# Altium footprint library PcbLib.PcbLib: 71 footprints (part 5 of 6)
Each footprint in its own frame and in the unit in brackets; x right, y up, seen from the top. Pads: shape width x height; smd on the part's side, far side on the other; paste and mask are expansions set on the pad; w line width, h text height; cw(c..) or ccw(c..) is an arc to the next point about the centre after c.
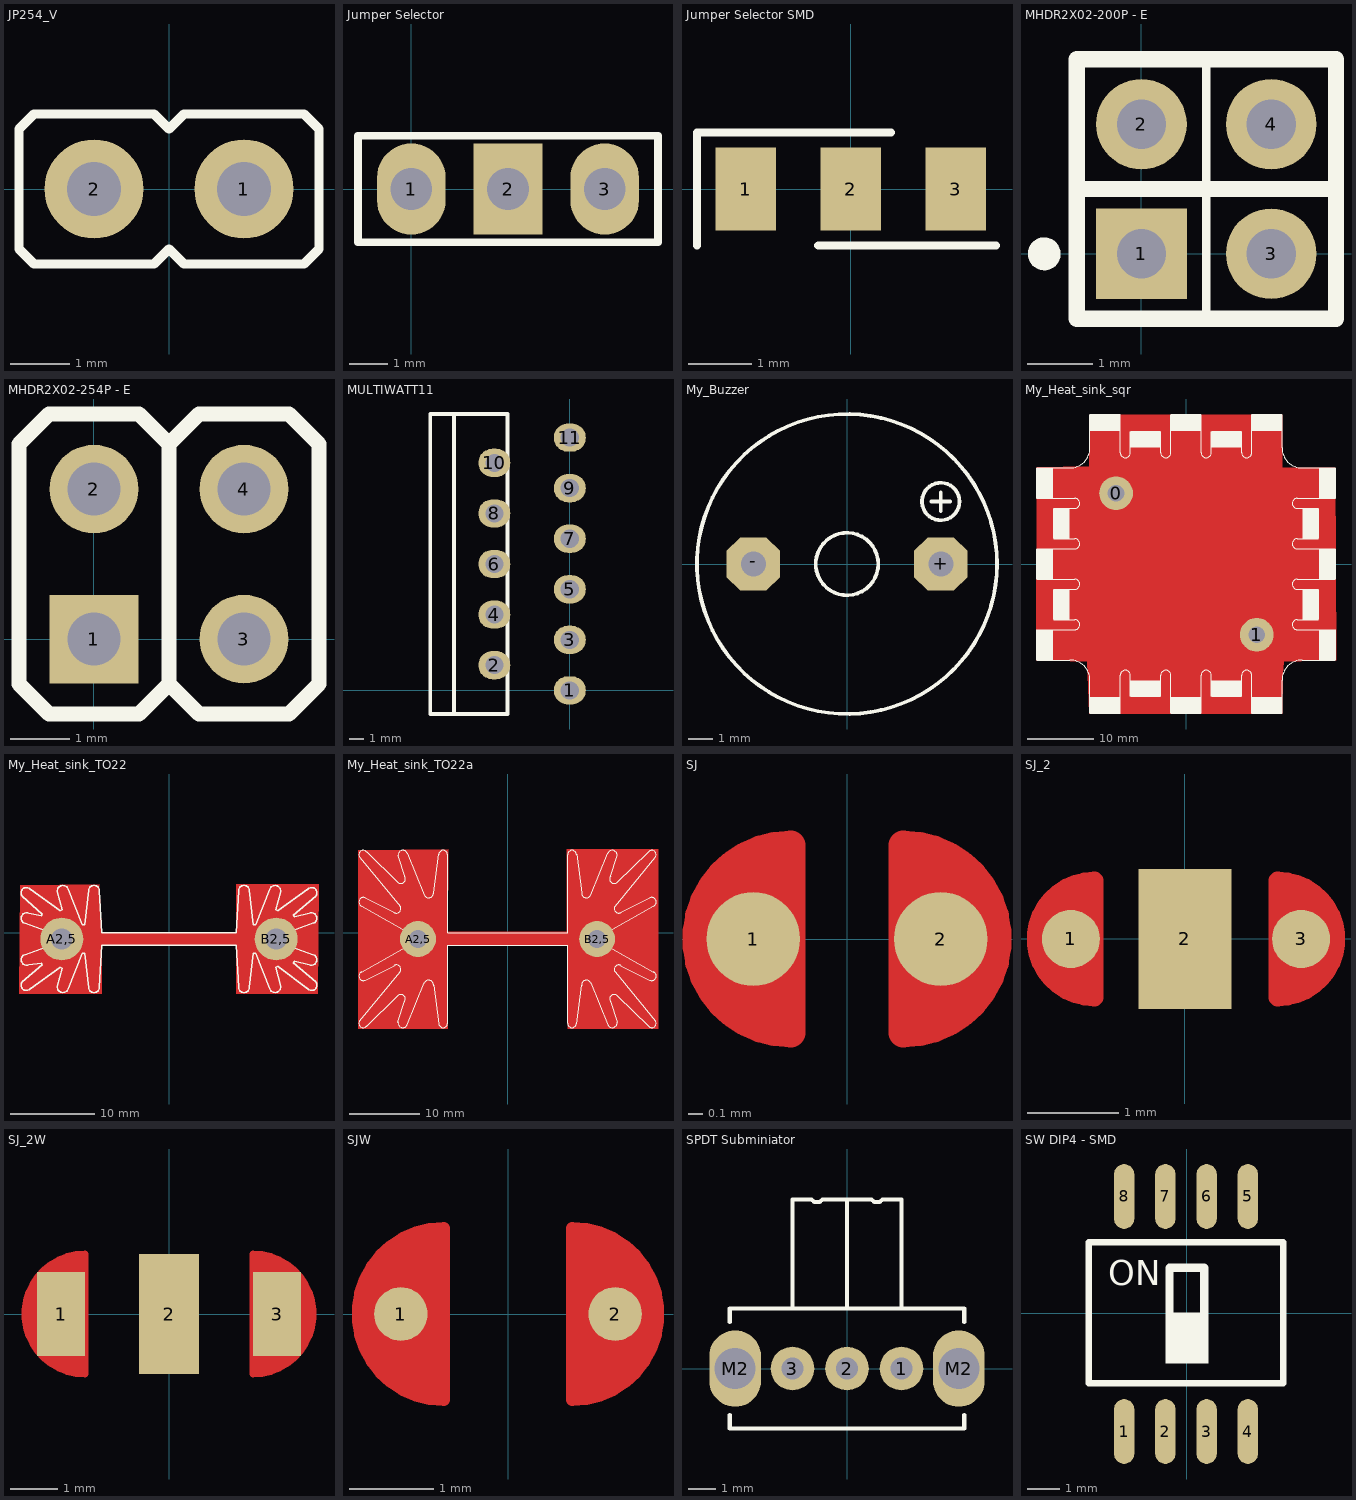
[diagram p4: the footprints below, top view; thin cyan lines are the x and y axes]

## JP254_V [mil] "Jumper Header 2.54mm Pitch, Vertical"
height 393.7
pads (2):
  round 66 hole 36: 1(50,0) 2(-50,0)
Top Overlay:
  lines w6: -100,-40 -100,40 -90,50 -10,50 0,40 10,50 90,50 100,40 100,-40 90,-50 10,-50 0,-40 -10,-50 -90,-50 -100,-40
3D body "pin_header_aw140-eg-g02d.stp": height 322.83, standoff -118.11, extent -96.06,-49.21 100,49.21

## Jumper Selector [mm]
pads (3):
  oval 1.8x2.4 hole 1.1: 1(0,0) 3(5.08,0)
  rect 1.8x2.4 hole 1.1: 2(2.54,0)
Top Overlay:
  lines w0.2: -1.4,-1.4 -1.4,1.4 6.48,1.4 6.48,-1.4 -1.4,-1.4
3D body: height 10.16, standoff 3.05, extent -1.245,-1.27 3.835,1.27
3D body "Header3.STEP": height 8.38, standoff -2.54, extent -1.245,-1.27 6.375,1.27

## Jumper Selector SMD [mm]
pads (3):
  rect 0.95x1.3 smd: 1(-1.65,0) 2(0,0) 3(1.65,0)
Top Overlay:
  lines w0.127: -2.413,-0.889 -2.413,0.889 0.635,0.889 ; -0.508,-0.889 2.286,-0.889
3D body "0805.STEP": height 0.6, standoff 0, extent -1.854,-0.635 0.178,0.635

## MHDR2X02-200P - E [mil] "Male Header 2X02 with 2.00 mm Pitch"
pads (4):
  rect 55x55 hole 30: 1(0,0)
  round 55 hole 30: 2(0,78.74) 3(78.74,0) 4(78.74,78.74)
Top Overlay:
  circle w10: c-59.06,0 r5
  lines w5: 39.37,-39.37 39.37,118.11
  lines w10: -39.37,39.37 118.11,39.37 ; -39.37,-39.37 118.11,-39.37 118.11,118.11 -39.37,118.11 -39.37,-39.37

## MHDR2X02-254P - E [mm] "Male Header 2X02 with 2.54 mm Pitch"
pads (4):
  rect 1.5x1.5 hole 0.9: 1(0,0)
  round 1.5 hole 0.9: 2(0,2.54) 3(2.54,0) 4(2.54,2.54)
Top Overlay:
  lines w0.254: 1.27,-0.762 1.777,-1.268 3.302,-1.268 3.81,-0.76 3.81,3.304 ; 1.27,3.302 0.761,3.812 -0.762,3.812 -1.27,3.304 -1.27,-0.762 -0.763,-1.268 0.762,-1.268 1.27,-0.76 1.27,3.304 1.778,3.812 3.301,3.812 3.81,3.302
3D body "PIN.STEP": height 8.43, standoff -2.49, extent 1.27,-1.27 3.81,1.27
3D body "PIN.STEP": height 8.43, standoff -2.49, extent 1.27,1.27 3.81,3.81
3D body "PIN.STEP": height 8.43, standoff -2.49, extent -1.27,1.27 1.27,3.81
3D body "PIN.STEP": height 8.43, standoff -2.49, extent -1.27,-1.27 1.27,1.27

## MULTIWATT11 [mil] "Use For L6203"
height 760
pads (11):
  oval 85x75 hole 48: 1(0,0) 2(-200,67) 3(0,134) 4(-200,201) 5(0,268) 6(-200,335) 7(0,402) 8(-200,469) 9(0,536) 10(-200,603) 11(0,670)
Top Overlay:
  lines w10: -317,732.5 -315,732.5 ; -307,-62.5 -307,732.5 ; -370,-62.5 -165,-62.5 -165,732.5 -370,732.5 -370,-62.5
3D body: height 760, standoff 62, extent -368,-61 -307,731
3D body: height 42, standoff 20, extent -254,-18 11,19
3D body: height 62, standoff 42, extent -254,-18 -232,19
3D body: height 42, standoff 20, extent -254,116 11,153
3D body: height 62, standoff 42, extent -254,116 -232,153
3D body: height 42, standoff 20, extent -254,250 11,287
3D body: height 62, standoff 42, extent -254,250 -232,287
3D body: height 42, standoff 20, extent -254,384 11,421
3D body: height 62, standoff 42, extent -254,384 -232,421
3D body: height 42, standoff 20, extent -254,518 11,555
3D body: height 62, standoff 42, extent -254,518 -232,555
3D body: height 62, standoff 42, extent -254,652 -232,689
3D body: height 42, standoff 20, extent -254,652 11,689
3D body: height 42, standoff 20, extent -254,49 -189,86
3D body: height 62, standoff 42, extent -254,49 -232,86
3D body: height 42, standoff 20, extent -254,183 -189,220
3D body: height 62, standoff 42, extent -254,183 -232,220
3D body: height 42, standoff 20, extent -254,317 -189,354
3D body: height 62, standoff 42, extent -254,317 -232,354
3D body: height 42, standoff 20, extent -254,451 -189,488
3D body: height 62, standoff 42, extent -254,451 -232,488
3D body: height 62, standoff 42, extent -254,585 -232,622
3D body: height 42, standoff 20, extent -254,585 -189,622
3D body: height 20, standoff -40, extent -11,-18 11,19
3D body: height 20, standoff -40, extent -211,49 -189,86
3D body: height 20, standoff -40, extent -11,116 11,153
3D body: height 20, standoff -40, extent -211,183 -189,220
3D body: height 20, standoff -40, extent -11,250 11,287
3D body: height 20, standoff -40, extent -211,317 -189,354
3D body: height 20, standoff -40, extent -11,384 11,421
3D body: height 20, standoff -40, extent -211,451 -189,488
3D body: height 20, standoff -40, extent -11,518 11,555
3D body: height 20, standoff -40, extent -211,585 -189,622
3D body: height 20, standoff -40, extent -11,652 11,689
3D body: height 490, standoff 60, extent -370,-62.5 -165,732.5

## My_Buzzer [mil]
height 354.33
pads (2):
  oct 85x85 hole 40: +(150,0) -(-150,0)
Top Overlay:
  circle w6: c0,0 r240
  circle w6: c0,0 r50
  circle w6: c150,100 r30
  lines w6: 135,100 165,100 ; 150,85 150,115

## My_Heat_sink_sqr [mil]
pads (2):
  round 200 hole 100: 0(-415,420) 1(420,-420)
Top Layer:
  region: 885,570 570,575 570,885 -570,885 -575,580 -885,575 -890,-570 -585,-580 -575,-890 570,-890 575,-655 580,-580 890,-570
Top Overlay:
  circle w6: c-420,420 r85
  circle w6: c420,-420 r85
  rectangle: -330,690 -150,790
  rectangle: -570,790 -390,890
  rectangle: -790,150 -690,330
  rectangle: -890,390 -790,570
  rectangle: 150,-790 330,-690
  rectangle: 390,-890 570,-790
  rectangle: 690,-330 790,-150
  rectangle: 790,-570 890,-390
  rectangle: -790,-330 -690,-150
  rectangle: -890,-570 -790,-390
  rectangle: -890,-90 -790,90
  rectangle: -330,-790 -150,-690
  rectangle: -90,-890 90,-790
  rectangle: -570,-890 -390,-790
  rectangle: 690,150 790,330
  rectangle: 790,390 890,570
  rectangle: 790,-90 890,90
  rectangle: 150,690 330,790
  rectangle: -90,790 90,890
  rectangle: 390,790 570,890
  lines w6: -885,-570 -690,-570 cw(c-690,-690) -570,-690 -570,-885 ; -885,-390 -660,-390 ccw(c-660,-360) -660,-330 -785,-330 ; -885,-90 -660,-90 cw(c-660,-120) -660,-150 -785,-150 ; -885,90 -660,90 ccw(c-660,120) -660,150 -785,150 ; -885,390 -660,390 cw(c-660,360) -660,330 -785,330 ; -885,570 -690,570 ccw(c-690,690) -570,690 -570,885 ; -390,-885 -390,-660 cw(c-360,-660) -330,-660 -330,-785 ; -390,885 -390,660 ccw(c-360,660) -330,660 -330,785 ; -150,-785 -150,-660 cw(c-120,-660) -90,-660 -90,-885 ; -150,785 -150,660 ccw(c-120,660) -90,660 -90,885 ; 90,-885 90,-660 cw(c120,-660) 150,-660 150,-785 ; 90,885 90,660 ccw(c120,660) 150,660 150,785 ; 330,-785 330,-660 cw(c360,-660) 390,-660 390,-885 ; 330,785 330,660 ccw(c360,660) 390,660 390,885 ; 570,-885 570,-690 cw(c690,-690) 690,-570 885,-570 ; 570,885 570,690 ccw(c690,690) 690,570 885,570 ; 785,-330 660,-330 ccw(c660,-360) 660,-390 885,-390 ; 785,-150 660,-150 cw(c660,-120) 660,-90 885,-90 ; 785,150 660,150 ccw(c660,120) 660,90 885,90 ; 785,330 660,330 cw(c660,360) 660,390 885,390

## My_Heat_sink_TO22 [mil]
pads (2):
  round 200 hole 100: A2,5(-500,-30) B2,5(500,-30)
Top Layer:
  region: 700,225 315,225 315,0 -315,0 -325,225 -695,220 -700,-285 -315,-285 -315,-60 315,-60 315,-285 695,-285
Top Overlay:
  lines w6: -677,-105 -595,-75 -535,-55 ccw(c-500,-30) -535,-5 -595,15 -677,45 ; -675.38,-104.16 ccw(c-665,-126.99) -655,-149.99 -596,-143 -591,-150 -685,-230 ccw(c-665,-245) -645,-260 ; -675.38,44.17 cw(c-665,67) -655,90 -596,78 -591,85 -685,170 cw(c-665,185) -645,200 ; -649,-264 -507,-162 -499,-166 -522,-250 ; -649,204 -507,102 -499,106 -522,190 ; -521.56,-248.57 ccw(c-495,-253) -470,-263 -404,-97 -393,-97 -375,-257 ; -521.56,188.57 cw(c-495,193) -470,203 -404,37 -393,37 -375,197 ; -375,-255 ccw(c-350,-255) -325,-255 -315,-60 315,-60 325,-255 ccw(c350,-255) 375,-255 ; -375,195 cw(c-350,195) -325,195 -315,0 315,0 325,195 cw(c350,195) 375,195 ; 375,-256 393,-97 404,-97 470,-263 ccw(c494.99,-253) 521.55,-248.57 ; 375,198 393,37 404,37 470,203 cw(c494.99,193) 521.55,188.57 ; 522,-250 499,-161 507,-157 649,-264 ; 522,190 499,106 507,102 649,204 ; 535,-55 595,-75 677,-105 ; 535.78,-53.85 cw(c500,-29.99) 535,-4.99 595,15 676,45 ; 645,-260 ccw(c665,-245) 685,-230 581,-140 586,-133 655,-150 ccw(c665,-126.99) 675.38,-104.16 ; 645,200 cw(c665,185) 685,170 581,80 586,73 655,90 cw(c665,67) 675.38,44.17
Mechanical 2:
  text "2,5" at 450,-150 h50
  text "2,5" at -575,-150 h50

## My_Heat_sink_TO22a [mil]
pads (2):
  round 200 hole 100: A2,5(-500,-35) B2,5(500,-35)
Top Layer:
  region: 840,465 330,465 330,5 -335,5 -330,465 -835,460 -835,-535 -335,-535 -335,-75 335,-70 335,-535 840,-535
Top Overlay:
  lines w6: -825,-491 -600,-218 ; -825,-490 ccw(c-805,-505) -785,-520 ; -825,420 cw(c-805,435) -785,450 ; -825,421 -600,148 ; -816,-220 -585,-90 -540,-65 ccw(c-500,-35) -540,-5 -585,20 -816,150 ; -815.38,-219.16 ccw(c-805,-241.99) -795,-264.99 -633,-183 ; -815.38,149.17 cw(c-805,172) -795,195 -633,113 ; -787,-522 -612,-352 ; -787,452 -612,282 ; -635.22,-184.15 cw(c-621.01,-205) -600.01,-219 ; -635.22,114.15 ccw(c-621,135) -600,149 ; -615,-355 cw(c-595,-370) -575,-385 ; -615,285 ccw(c-595,300) -575,315 ; -612,-500 -573,-381 ; -612,430 -573,311 ; -611.56,-498.57 ccw(c-585,-503) -560,-513 -464,-280 ; -611.56,428.57 cw(c-585,433) -560,443 -464,210 ; -465,-282 cw(c-440,-292) -413.44,-296.43 ; -465,212 ccw(c-440,222) -413.44,226.43 ; -413,-294 -385,-507 ; -413,224 -385,437 ; -385,-505 ccw(c-360,-505) -335,-505 -335,-70 335,-70 335,-505 ccw(c360,-505) 385,-505 ; -385,435 cw(c-360,435) -335,435 -335,0 -300,0 335,0 335,435 cw(c360,435) 385,435 ; 385,-507 413,-294 ; 385,437 413,224 ; 413.44,-296.43 cw(c440,-292) 465,-282 ; 413.44,226.43 ccw(c440,222) 465,212 ; 464,-280 560,-513 ccw(c584.99,-503) 611.55,-498.57 ; 464,210 560,443 cw(c584.99,433) 611.55,428.57 ; 573,-381 612,-500 ; 573,311 612,430 ; 575,-385 cw(c595,-370) 615,-355 ; 575,315 ccw(c595,300) 615,285 ; 599.99,-219 cw(c620.99,-205) 635.21,-184.15 ; 600,-218 825,-491 ; 600,148 825,421 ; 599.99,149 ccw(c621,135) 635.22,114.14 ; 612,-352 787,-522 ; 612,282 787,452 ; 633,-183 795,-265 ccw(c805,-241.99) 815.38,-219.16 ; 633,113 795,195 cw(c805,172) 815.38,149.17 ; 785,-520 ccw(c805,-505) 825,-490 ; 785,450 cw(c805,435) 825,420 ; 816,-220 585,-90 540,-65 cw(c500,-35) 540,-5 585,20 816,150
Mechanical 2:
  text "2,5" at -550,-150 h50
  text "2,5" at 450,-150 h50

## SJ [mil] "SMD Jumper"
pads (2):
  round 25 smd mask-50: 1(-25,0) 2(25,0)
Top Layer:
  lines w7.87: -15,-25 cw(c-15,0) -15,25 -15,-25 ; 15,-25 ccw(c15,0) 15,25 15,-25
  lines w10: -35,-11 -35,11 ; -30,-16 -30,16 ; -25,-20 -25,20 ; -20,-22 -20,22 ; 20,-22 20,22 ; 25,-20 25,20 ; 30,-16 30,16 ; 35,-11 35,11
Top Solder:
  lines w12: -35,-11 -35,11 ; -30,-16 -30,16 ; -25,-20 -25,20 ; -20,-22 -20,22 ; 20,-22 20,22 ; 25,-20 25,20 ; 30,-16 30,16 ; 35,-11 35,11 ; -15,-25 cw(c-15,0) -15,25 -15,-25 ; 15,-25 ccw(c15,0) 15,25 15,-25

## SJ_2 [mil]
pads (3):
  round 25 smd mask-50: 1(-49,0) 3(50,0)
  rect 40x60 smd mask+2: 2(0,0)
Top Layer:
  lines w7.87: -39,-25 cw(c-39,0) -39,25 -39,-25 ; 40,-25 ccw(c40,0) 40,25 40,-25
  lines w10: -59,-11 -59,11 ; -54,-16 -54,16 ; -49,-20 -49,20 ; -44,-22 -44,22 ; 45,-22 45,22 ; 50,-20 50,20 ; 55,-16 55,16 ; 60,-11 60,11
Top Solder:
  lines w12: -59,-11 -59,11 ; -54,-16 -54,16 ; -49,-20 -49,20 ; -44,-22 -44,22 ; 45,-22 45,22 ; 50,-20 50,20 ; 55,-16 55,16 ; 60,-11 60,11 ; -39,-25 cw(c-39,0) -39,25 -39,-25 ; 40,-25 ccw(c40,0) 40,25 40,-25

## SJ_2W [mil]
pads (3):
  rect 40x70 smd mask-50: 1(-90,0) 3(90,0)
  rect 50x100 smd: 2(0,0)
Top Layer:
  region: 103,40 70,40 70,35 103,35
  region: 96,45 70,45 70,40 96,40
  region: 89,49 70,49 70,45 89,45
  region: 89,-45 70,-45 70,-49 89,-49
  region: 96,-40 70,-40 70,-45 96,-45
  region: 103,-35 70,-35 70,-40 103,-40
  region: 114,29 110,29 110,-29 114,-29
  region: 119,20 114,20 114,-20 119,-20
  region: 121,10 117,10 117,-10 121,-10
  rectangle: -121,-10 -117,10
  rectangle: -119,-20 -114,20
  rectangle: -114,-29 -110,29
  rectangle: -103,-40 -70,-35
  rectangle: -96,-45 -70,-40
  rectangle: -89,-49 -70,-45
  rectangle: -89,45 -70,49
  rectangle: -96,40 -70,45
  rectangle: -103,35 -70,40
  lines w6: 70,-50 ccw(c70,0) 70,50 ; 70,-50 ccw(c70,0) 70,50 ; 70,-50 70,50 ; 70,-50 70,50 ; -70,-50 cw(c-70,0) -70,50 -70,-50
Top Solder:
  rectangle: -103,35 -70,40
  rectangle: -96,40 -70,45
  rectangle: -89,45 -70,49
  rectangle: -89,-49 -70,-45
  rectangle: -96,-45 -70,-40
  rectangle: -103,-40 -70,-35
  rectangle: -114,-29 -110,29
  rectangle: -119,-20 -114,20
  rectangle: -121,-10 -117,10
  region: 121,10 117,10 117,-10 121,-10
  region: 119,20 114,20 114,-20 119,-20
  region: 114,29 110,29 110,-29 114,-29
  region: 103,-35 70,-35 70,-40 103,-40
  region: 96,-40 70,-40 70,-45 96,-45
  region: 89,-45 70,-45 70,-49 89,-49
  region: 89,49 70,49 70,45 89,45
  region: 96,45 70,45 70,40 96,40
  region: 103,40 70,40 70,35 103,35
  rectangle: -110,-35 -70,35
  rectangle: 70,-35 110,35
  lines w15: 70,-50 ccw(c70,0) 70,50 ; 70,-50 ccw(c70,0) 70,50 ; 70,-50 70,50 ; 70,-50 70,50 ; -70,-50 cw(c-70,0) -70,50 -70,-50

## SJW [mil] "SMD Jumper Wide"
pads (2):
  round 25 smd mask-50: 1(-50,0) 2(50,0)
Top Layer:
  region: 64,24 30,24 30,-25 64,-25
  region: 58,30 30,30 30,24 58,24
  region: 53,35 30,35 30,30 53,30
  region: 45,39 30,39 30,35 45,35
  region: 45,-35 30,-35 30,-39 45,-39
  region: 53,-30 30,-30 30,-35 53,-35
  region: 58,-24 30,-24 30,-30 58,-30
  region: 69,16 64,16 64,-16 69,-16
  rectangle: -69,-16 -64,16
  rectangle: -58,-30 -30,-24
  rectangle: -53,-35 -30,-30
  rectangle: -45,-39 -30,-35
  rectangle: -45,35 -30,39
  rectangle: -53,30 -30,35
  rectangle: -58,24 -30,30
  rectangle: -64,-25 -30,24
  lines w6: -30,-40 cw(c-30,0) -30,40 -30,-40 ; 30,-40 ccw(c30,0) 30,40 30,-40
Top Solder:
  rectangle: -64,-25 -30,24
  rectangle: -58,24 -30,30
  rectangle: -53,30 -30,35
  rectangle: -45,35 -30,39
  rectangle: -45,-39 -30,-35
  rectangle: -53,-35 -30,-30
  rectangle: -58,-30 -30,-24
  rectangle: -69,-16 -64,16
  region: 69,16 64,16 64,-16 69,-16
  region: 58,-24 30,-24 30,-30 58,-30
  region: 53,-30 30,-30 30,-35 53,-35
  region: 45,-35 30,-35 30,-39 45,-39
  region: 45,39 30,39 30,35 45,35
  region: 53,35 30,35 30,30 53,30
  region: 58,30 30,30 30,24 58,24
  region: 64,24 30,24 30,-25 64,-25
  lines w12: -30,-40 cw(c-30,0) -30,40 -30,-40 ; 30,-40 ccw(c30,0) 30,40 30,-40

## SPDT Subminiator [mm] "Subminiator SPDT switch"
pads (5):
  round 1.6 hole 0.8: 1(2,0) 2(0,0) 3(-2,0)
  oval 1.9x2.8 hole 1.5: M2(-4.1,0) M2(4.1,0)
Top Overlay:
  lines w0.15: -4.3,-1.7 -4.3,-2.2 4.3,-2.2 4.3,-1.7 ; -4.3,1.7 -4.3,2.2 4.3,2.2 4.3,1.7 ; -2,2.2 -2,6.2 ; 0,2.2 0,6.2 ; 2,2.2 2,6.2 1.3,6.2 1.2,6.1 1,6.1 0.9,6.2 0,6.2 ; -2,6.2 -1.3,6.2 -1.2,6.1 -1,6.1 -0.9,6.2 0,6.2 ; -2,6.2 -2,6.2 ; 0,6.2 0,6.2 ; 0,6.2 0,6.2
3D body "User Library-CK_Slide.step": height 4.7, standoff -2.79, extent -4.311,-2.28 4.3,6.093

## SW DIP4 - SMD [mm]
pads (8):
  oval 0.625x2 smd: 1(-1.93,-3.641) 2(-0.66,-3.641) 3(0.61,-3.641) 4(1.88,-3.641) 5(1.88,3.591) 6(0.61,3.591) 7(-0.66,3.591) 8(-1.93,3.591)
Top Overlay:
  rectangle: -0.66,-1.549 0.66,0.025
  lines w0.2: -3.023,-2.159 2.972,-2.159 2.972,2.184 -3.023,2.184 -3.023,-2.159
  lines w0.254: -0.533,0.025 -0.533,1.397 0.533,1.397 0.533,0.025
  text "ON" at -2.413,0.864 h0.76
3D body "User Library-TDA04.STEP": height 2.35, standoff 0, extent -3.106,-4.066 3.104,4.067